# Altium schematic symbol library ICE5LP2K-SG48ITR.SchLib: 1 symbol
Pins are listed as number, name and electrical type; pins without a type are passive.

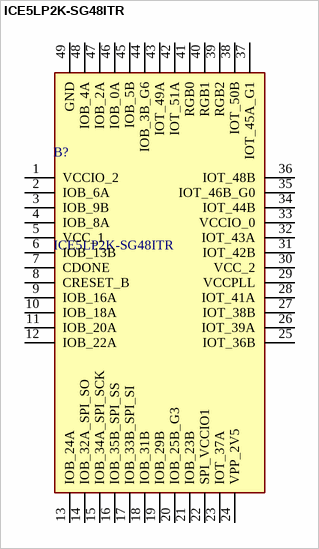
[diagram p0: symbol ICE5LP2K-SG48ITR]

## ICE5LP2K-SG48ITR
designator B?
FPGA iCE40 Ultra Family 2048 Cells 40nm Technology 1.2V 48-Pin T/R; Manufacturer_Name: Lattice Semiconductor; Geometry.Height: 1mm; Manufacturer_Part_Number: ICE5LP2K-SG48ITR; Mouser Part Number: 842-ICE5LP2K-SG48ITR; Mouser Price/Stock: https://www.mouser.co.uk/ProductDetail/Lattice/ICE5LP2K-SG48ITR?qs=ZwKJWZfDtNgAWzMHJRGDug%3D%3D; Arrow Part Number: ICE5LP2K-SG48ITR; Arrow Price/Stock: https://www.arrow.com/en/products/ice5lp2k-sg48itr/lattice-semiconductor; Datasheet Link: http://www.latticesemi.com/~/media/LatticeSemi/Documents/DataSheets/iCE/iCE40UltraFamilyDataSheet.pdf
footprint QFN50P700X700X100-49N-D
pins: 1 VCCIO_2, 2 IOB_6A, 3 IOB_9B, 4 IOB_8A, 5 VCC_1, 6 IOB_13B, 7 CDONE, 8 CRESET_B, 9 IOB_16A, 10 IOB_18A, 11 IOB_20A, 12 IOB_22A, 13 IOB_24A, 14 IOB_32A_SPI_SO, 15 IOB_34A_SPI_SCK, 16 IOB_35B_SPI_SS, 17 IOB_33B_SPI_SI, 18 IOB_31B, 19 IOB_29B, 20 IOB_25B_G3, 21 IOB_23B, 22 SPI_VCCIO1, 23 IOT_37A, 24 VPP_2V5, 25 IOT_36B, 26 IOT_39A, 27 IOT_38B, 28 IOT_41A, 29 VCCPLL, 30 VCC_2, 31 IOT_42B, 32 IOT_43A, 33 VCCIO_0, 34 IOT_44B, 35 IOT_46B_G0, 36 IOT_48B, 37 IOT_45A_G1, 38 IOT_50B, 39 RGB2, 40 RGB1, 41 RGB0, 42 IOT_51A, 43 IOT_49A, 44 IOB_3B_G6, 45 IOB_5B, 46 IOB_0A, 47 IOB_2A, 48 IOB_4A, 49 GND